# Altium schematic symbol library Turck RS.Schlib: 1 symbol
Pins are listed as number, name and electrical type; pins without a type are passive.

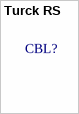
[diagram p0: symbol Turck RS]

## Turck RS
designator CBL?  (mechanical)